# Altium footprint library SMD_IND_AMDLA4020S.PcbLib: 1 footprints
Each footprint in its own frame and in the unit in brackets; x right, y up, seen from the top. Pads: shape width x height; smd on the part's side, far side on the other; paste and mask are expansions set on the pad; w line width, h text height; cw(c..) or ccw(c..) is an arc to the next point about the centre after c.
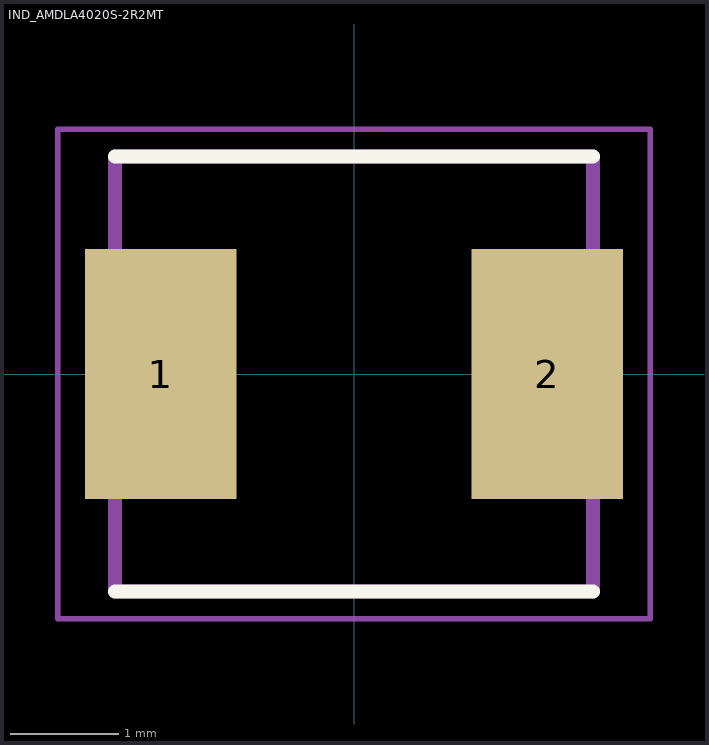
[diagram p0: the footprint, top view; thin cyan lines are the x and y axes]

## IND_AMDLA4020S-2R2MT [mm]
height 2
pads (2):
  rect 1.395x2.3 smd: 1(-1.777,0) 2(1.777,0)
Top Overlay:
  lines w0.127: -2.2,-2 2.2,-2 ; -2.2,2 2.2,2
Mechanical 13:
  lines w0.127: -2.2,-2 -2.2,2 2.2,2 2.2,-2 -2.2,-2
Mechanical 15:
  lines w0.05: -2.725,-2.25 -2.725,2.25 2.725,2.25 2.725,-2.25 -2.725,-2.25
3D body "step_temp.STEP": height 1.8, standoff -0.07, extent -2.27,-2 2.27,2